# Altium integrated library Altera APEX 20K.IntLib: 93 symbols (part 14 of 14)
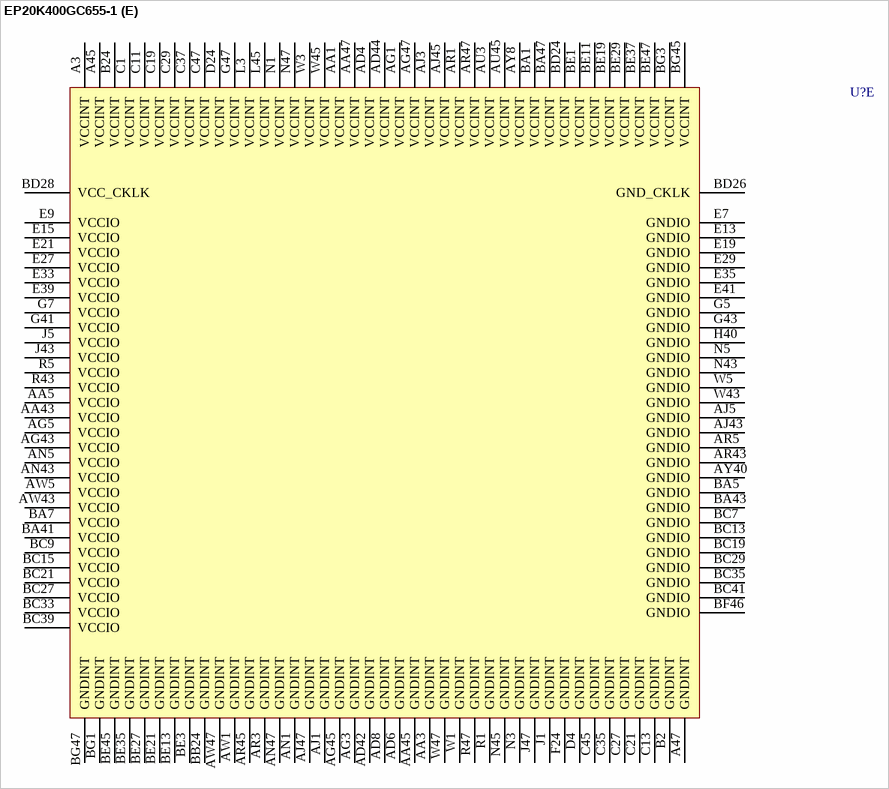
[diagram p212: symbol EP20K400GC655-1]

## EP20K400GC655-1
designator U?
APEX 20K400 PLD, 655-Pin PGA, Commercial Grade, Speed Grade 1; ComponentAvailability: Discontinued; Published: 17-Sep-2003; DatasheetVersion: Mar-2004; PackageVersion: ver14.1, Oct-2005; PackageReference: PGA655; Publisher: Altium Limited; PackageDescription: 655-Pin Ceramic Pin Grid Array (PGA655); Code_JEDEC: MO-128-AP; ComponentLink1Description: Manufacturer Link; ComponentLink1URL: http://www.altera.com/products/devices/apex/apx-index.html; ComponentLink2Description: Datasheet; ComponentLink2URL: http://www.altera.com/literature/ds/apex.pdf; ComponentLink3Description: Discontinuation Notice; ComponentLink3URL: http://www.altera.com/literature/pcn/pdn0107.pdf
footprint PGA655 (PGA, 655-Leads, Body 62.5x62.5mm, Pitch 2.54mm)
3D model EP20K400-PGA655 (655-Pin Ceramic Pin Grid Array (PGA655))
part A pins: A5 IO (io), A7 IO (io), A9 IO (io), A11 IO (io), A13 IO (io), A15 IO (io), A17 IO (io), A19 IO (io), A21 IO (io), A25 IO (io), A27 IO (io), A29 IO (io), A31 IO (io), A33 IO (io), A35 IO (io), A37 IO (io), A39 IO (io), A41 IO (io), A43 IO (io), B4 IO (io), B6 IO (io), B8 IO (io), B10 IO (io), B12 IO (io), B14 IO (io), B16 IO (io), B18 IO (io), B20 IO (io), B22 IO (io), B26 IO (io), B28 IO (io), B30 IO (io), B32 IO (io), B34 IO (io), B36 IO (io), B38 IO (io), B40 IO (io), B42 IO (io), B44 IO (io), B46 IO (io), C3 IO (io), C5 IO (io), C7 IO (io), C9 IO (io), C15 IO (io), C17 IO (io), C31 IO (io), C33 IO (io), C39 IO (io), C41 IO (io), C43 IO (io), D2 IO (io), D6 IO (io), D8 IO (io), D10 IO (io), D12 IO (io), D14 IO (io), D16 IO (io), D18 IO (io), D20 IO (io), D22 IO (io), D26 IO (io), D28 IO (io), D30 IO (io), D32 IO (io), D34 IO (io), D36 IO (io), D38 IO (io), D40 IO (io), D42 IO (io), D44 IO (io), D46 IO (io), E1 IO (io), E3 IO (io), E5 IO (io), E11 IO (io), E17 IO (io), E23 IO (io), E25 IO (io), E31 IO (io), E37 IO (io), E43 IO (io), E45 IO (io), E47 IO (io), F2 IO (io), F4 IO (io), F6 IO (io), F8 IO (io), F10 IO (io), F12 IO (io), F14 IO (io), F16 IO (io), F18 IO (io), F20 IO (io), F22 IO (io), F26 IO (io), F28 IO (io), F30 IO (io), F32 IO (io), F34 IO (io), F36 IO (io), F38 IO (io), F40 IO (io), F42 IO (io), F44 IO (io), F46 IO (io), G1 IO (io), G3 IO (io), G9 IO (io), G11 IO (io), G13 IO (io), G15 IO (io), G17 IO (io), G19 IO (io), G21 IO (io), G23 IO (io), G25 IO (io), G27 IO (io), G29 IO (io), G31 IO (io), G33 IO (io), G35 IO (io), G37 IO (io), G39 IO (io), G45 IO (io), H2 IO (io), H4 IO (io), H6 IO (io), H8 IO (io), H10 IO (io), H12 IO (io), H14 IO (io), H16 IO (io), H18 IO (io), H20 IO (io), H22 IO (io), H26 IO (io), H28 IO (io), H30 IO (io), H32 IO (io), H34 IO (io), H36 IO (io), H38 IO (io), H42 IO (io), H44 IO (io), H46 IO (io), J3 IO (io), J7 IO (io), J9 IO (io), J39 IO (io), J41 IO (io), J45 IO (io), K2 IO (io), K4 IO (io), K6 IO (io), K8 IO (io), K40 IO (io), K42 IO (io), K44 IO (io), K46 IO (io)
part B pins: AA7 IO (io), AA9 IO (io), AA39 IO (io), AA41 IO (io), AB2 IO (io), AB6 IO (io), AB8 IO (io), AB40 IO (io), AB42 IO (io), AB44 IO (io), AB46 IO (io), AC1 IO (io), AC3 IO (io), AC7 IO (io), AC39 IO (io), AC41 IO (io), AD46 IO (io), AE3 IO (io), AE5 IO (io), AE9 IO (io), AE39 IO (io), AE45 IO (io), AE47 IO (io), AF2 IO (io), AF4 IO (io), AF6 IO (io), AF8 IO (io), AF40 IO (io), AF42 IO (io), AF44 IO (io), AF46 IO (io), AG7 IO (io), AG9 IO (io), AG39 IO (io), AG41 IO (io), AH2 IO (io), AH40 IO (io), AH42 IO (io), AH44 IO (io), AH46 IO (io), AJ7 IO (io), AJ9 IO (io), AJ39 IO (io), AJ41 IO (io), AK2 IO (io), AK4 IO (io), AK6 IO (io), AK8 IO (io), AK40 IO (io), AK42 IO (io), AK44 IO (io), AK46 IO (io), AL1 IO (io), AL3 IO (io), AL5 IO (io), AL7 IO (io), AL9 IO (io), AL39 IO (io), AL41 IO (io), AL43 IO (io), AL45 IO (io), AL47 IO (io), AM2 IO (io), AM4 IO (io), AM6 IO (io), AM8 IO (io), AM40 IO (io), AM42 IO (io), AM44 IO (io), AM46 IO (io), AN3 IO (io), AN7 IO (io), AN9 IO (io), AN39 IO (io), AN41 IO (io), AN45 IO (io), AP2 IO (io), AP4 IO (io), AP8 IO (io), AP40 IO (io), AP42 IO (io), AP44 IO (io), AP46 IO (io), AR9 IO (io), AR39 IO (io), AR41 IO (io), AT2 IO (io), AT4 IO (io), L1 IO (io), L5 IO (io), L7 IO (io), L9 IO (io), L39 IO (io), L41 IO (io), L43 IO (io), L47 IO (io), M2 IO (io), M4 IO (io), M6 IO (io), M8 IO (io), M40 IO (io), M42 IO (io), M44 IO (io), M46 IO (io), N7 IO (io), N9 IO (io), N39 IO (io), N41 IO (io), P2 IO (io), P4 IO (io), P6 IO (io), P8 IO (io), P40 IO (io), P42 IO (io), P44 IO (io), P46 IO (io), R3 IO (io), R7 IO (io), R9 IO (io), R39 IO (io), R41 IO (io), R45 IO (io), T2 IO (io), T4 IO (io), T6 IO (io), T8 IO (io), T40 IO (io), T42 IO (io), T44 IO (io), T46 IO (io), U1 IO (io), U3 IO (io), U5 IO (io), U7 IO (io), U9 IO (io), U39 IO (io), U41 IO (io), U43 IO (io), U45 IO (io), U47 IO (io), V2 IO (io), V4 IO (io), V6 IO (io), V8 IO (io), V40 IO (io), V42 IO (io), V44 IO (io), V46 IO (io), W7 IO (io), W9 IO (io), W39 IO (io), W41 IO (io), Y2 IO (io), Y4 IO (io), Y6 IO (io), Y8 IO (io), Y40 IO (io), Y42 IO (io), Y44 IO (io), Y46 IO (io)
part C pins: AT6 IO (io), AT8 IO (io), AT40 IO (io), AT42 IO (io), AT44 IO (io), AT46 IO (io), AU1 IO (io), AU5 IO (io), AU7 IO (io), AU9 IO (io), AU39 IO (io), AU41 IO (io), AU43 IO (io), AU47 IO (io), AV2 IO (io), AV6 IO (io), AV8 IO (io), AV40 IO (io), AV42 IO (io), AV44 IO (io), AV46 IO (io), AW3 IO (io), AW7 IO (io), AW9 IO (io), AW39 IO (io), AW41 IO (io), AW45 IO (io), AY2 IO (io), AY4 IO (io), AY6 IO (io), AY10 IO (io), AY12 IO (io), AY14 IO (io), AY16 IO (io), AY18 IO (io), AY26 IO (io), AY28 IO (io), AY30 IO (io), AY32 IO (io), AY34 IO (io), AY36 IO (io), AY38 IO (io), AY42 IO (io), AY44 IO (io), AY46 IO (io), BA3 IO (io), BA9 IO (io), BA11 IO (io), BA13 IO (io), BA15 IO (io), BA17 IO (io), BA19 IO (io), BA21 IO (io), BA25 IO (io), BA27 IO (io), BA29 IO (io), BA31 IO (io), BA33 IO (io), BA35 IO (io), BA37 IO (io), BA39 IO (io), BA45 IO (io), BB2 IO (io), BB4 IO (io), BB6 IO (io), BB8 IO (io), BB10 IO (io), BB12 IO (io), BB14 IO (io), BB18 IO (io), BB22 IO (io), BB26 IO (io), BB28 IO (io), BB30 IO (io), BB32 IO (io), BB34 IO (io), BB36 IO (io), BB38 IO (io), BB40 IO (io), BB42 IO (io), BB44 IO (io), BB46 IO (io), BC1 IO (io), BC5 IO (io), BC11 IO (io), BC17 IO (io), BC23 IO (io), BC25 IO (io), BC31 IO (io), BC37 IO (io), BC43 IO (io), BC45 IO (io), BC47 IO (io), BD2 IO (io), BD4 IO (io), BD6 IO (io), BD8 IO (io), BD10 IO (io), BD12 IO (io), BD14 IO (io), BD16 IO (io), BD18 IO (io), BD22 IO (io), BD30 IO (io), BD32 IO (io), BD34 IO (io), BD36 IO (io), BD38 IO (io), BD40 IO (io), BD42 IO (io), BD44 IO (io), BD46 IO (io), BE5 IO (io), BE7 IO (io), BE9 IO (io), BE15 IO (io), BE17 IO (io), BE31 IO (io), BE33 IO (io), BE39 IO (io), BE41 IO (io), BE43 IO (io), BF2 IO (io), BF4 IO (io), BF6 IO (io), BF8 IO (io), BF10 IO (io), BF12 IO (io), BF16 IO (io), BF18 IO (io), BF20 IO (io), BF22 IO (io), BF24 IO (io), BF28 IO (io), BF30 IO (io), BF32 IO (io), BF34 IO (io), BF36 IO (io), BF38 IO (io), BF40 IO (io), BF42 IO (io), BF44 IO (io), BG5 IO (io), BG7 IO (io), BG9 IO (io), BG11 IO (io), BG15 IO (io), BG17 IO (io), BG19 IO (io), BG21 IO (io), BG25 IO (io), BG27 IO (io), BG31 IO (io), BG33 IO (io), BG35 IO (io), BG37 IO (io), BG39 IO (io), BG41 IO (io), BG43 IO (io)
part D pins: A23 MSEL0 (in), AB4 INPUT (in), AC5 INPUT (in), AC9 nCEO (out), AC43 INPUT (in), AC45 TCK (in), AC47 CONF_DONE (io), AD2 TRST (in), AD40 TMS (in), AE1 TDO (out), AE7 INIT_DONE (io), AE41 nSTATUS (io), AE43 INPUT (in), AH4 RDYnBSY (io), AH6 CLKUSR (io), AH8 DATA1 (io), AP6 DATA2 (io), AR7 DATA4 (io), AV4 DATA3 (io), AY20 nRS (io), AY22 DEV_CLRn (io), AY24 CLK2 (in), BA23 DCLK (in), BB16 DATA6 (io), BB20 nCS (io), BC3 DATA5 (io), BD20 CS (io), BE23 DATA0 (in), BE25 nCE (in), BF14 nWS (io), BF26 DEV_OE (io), BG13 DATA7 (io), BG23 TDI (in), BG29 LOCK (io), C23 MSEL1 (in), C25 nCONFIG (in), H24 CLK (in)
part E pins: A3 VCCINT (power), A45 VCCINT (power), A47 GNDINT (power), AA1 VCCINT (power), AA3 GNDINT (power), AA5 VCCIO (power), AA43 VCCIO (power), AA45 GNDINT (power), AA47 VCCINT (power), AD4 VCCINT (power), AD6 GNDINT (power), AD8 GNDINT (power), AD42 GNDINT (power), AD44 VCCINT (power), AG1 VCCINT (power), AG3 GNDINT (power), AG5 VCCIO (power), AG43 VCCIO (power), AG45 GNDINT (power), AG47 VCCINT (power), AJ1 GNDINT (power), AJ3 VCCINT (power), AJ5 GNDIO (power), AJ43 GNDIO (power), AJ45 VCCINT (power), AJ47 GNDINT (power), AN1 GNDINT (power), AN5 VCCIO (power), AN43 VCCIO (power), AN47 GNDINT (power), AR1 VCCINT (power), AR3 GNDINT (power), AR5 GNDIO (power), AR43 GNDIO (power), AR45 GNDINT (power), AR47 VCCINT (power), AU3 VCCINT (power), AU45 VCCINT (power), AW1 GNDINT (power), AW5 VCCIO (power), AW43 VCCIO (power), AW47 GNDINT (power), AY8 VCCINT (power), AY40 GNDIO (power), B2 GNDINT (power), B24 VCCINT (power), BA1 VCCINT (power), BA5 GNDIO (power), BA7 VCCIO (power), BA41 VCCIO (power), BA43 GNDIO (power), BA47 VCCINT (power), BB24 GNDINT (power), BC7 GNDIO (power), BC9 VCCIO (power), BC13 GNDIO (power), BC15 VCCIO (power), BC19 GNDIO (power), BC21 VCCIO (power), BC27 VCCIO (power), BC29 GNDIO (power), BC33 VCCIO (power), BC35 GNDIO (power), BC39 VCCIO (power), BC41 GNDIO (power), BD24 VCCINT (power), BD26 GND_CKLK (power), BD28 VCC_CKLK (power), BE1 VCCINT (power), BE3 GNDINT (power), BE11 VCCINT (power), BE13 GNDINT (power), BE19 VCCINT (power), BE21 GNDINT (power), BE27 GNDINT (power), BE29 VCCINT (power), BE35 GNDINT (power), BE37 VCCINT (power), BE45 GNDINT (power), BE47 VCCINT (power), BF46 GNDIO (power), BG1 GNDINT (power), BG3 VCCINT (power), BG45 VCCINT (power), BG47 GNDINT (power), C1 VCCINT (power), C11 VCCINT (power), C13 GNDINT (power), C19 VCCINT (power), C21 GNDINT (power), C27 GNDINT (power), C29 VCCINT (power), C35 GNDINT (power), C37 VCCINT (power), C45 GNDINT (power), C47 VCCINT (power), D4 GNDINT (power), D24 VCCINT (power), E7 GNDIO (power), E9 VCCIO (power), E13 GNDIO (power), E15 VCCIO (power), E19 GNDIO (power), E21 VCCIO (power), E27 VCCIO (power), E29 GNDIO (power), E33 VCCIO (power), E35 GNDIO (power), E39 VCCIO (power), E41 GNDIO (power), F24 GNDINT (power), G5 GNDIO (power), G7 VCCIO (power), G41 VCCIO (power), G43 GNDIO (power), G47 VCCINT (power), H40 GNDIO (power), J1 GNDINT (power), J5 VCCIO (power), J43 VCCIO (power), J47 GNDINT (power), L3 VCCINT (power), L45 VCCINT (power), N1 VCCINT (power), N3 GNDINT (power), N5 GNDIO (power), N43 GNDIO (power), N45 GNDINT (power), N47 VCCINT (power), R1 GNDINT (power), R5 VCCIO (power), R43 VCCIO (power), R47 GNDINT (power), W1 GNDINT (power), W3 VCCINT (power), W5 GNDIO (power), W43 GNDIO (power), W45 VCCINT (power), W47 GNDINT (power)

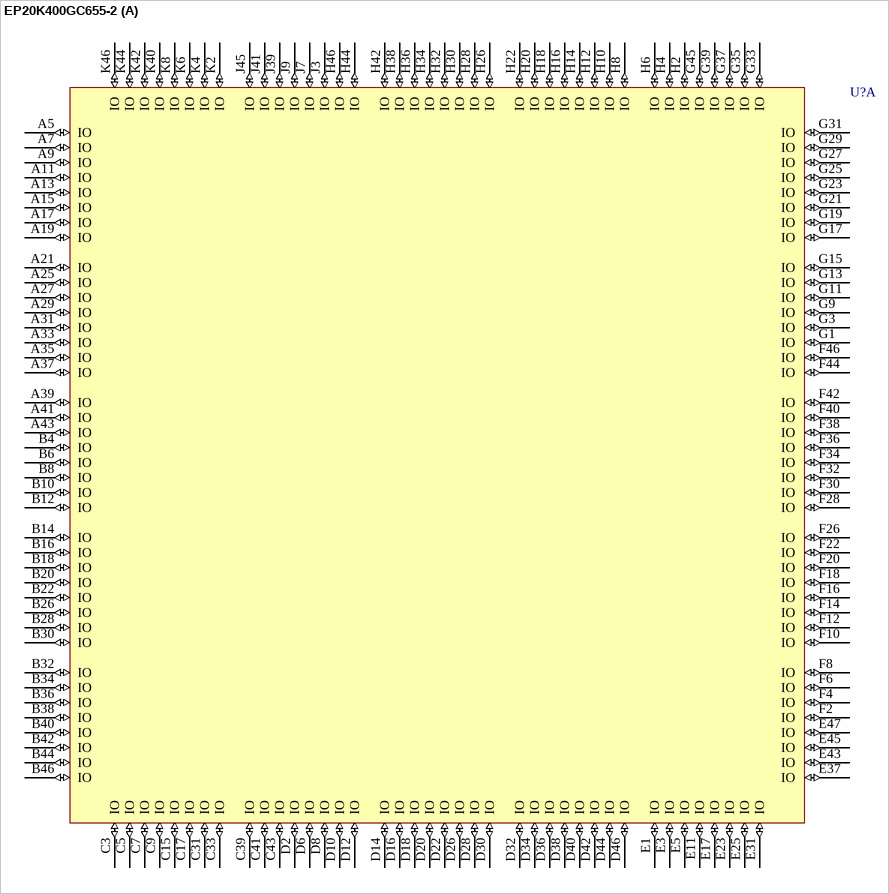
[diagram p192: symbol EP20K400GC655-2]

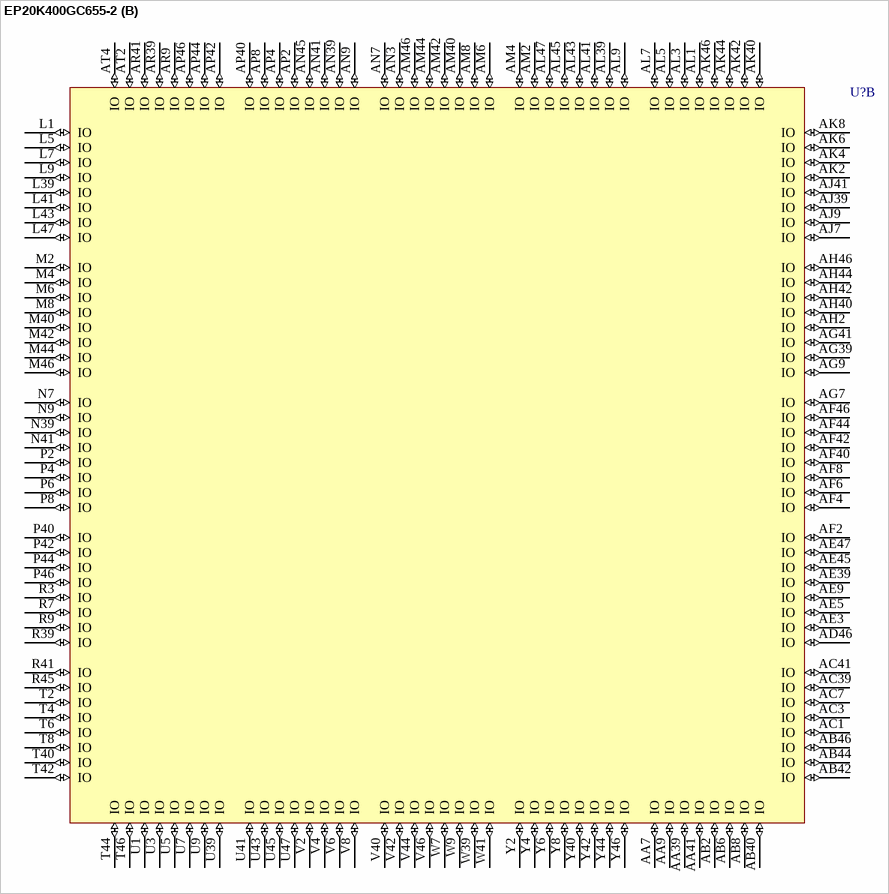
[diagram p193: symbol EP20K400GC655-2]

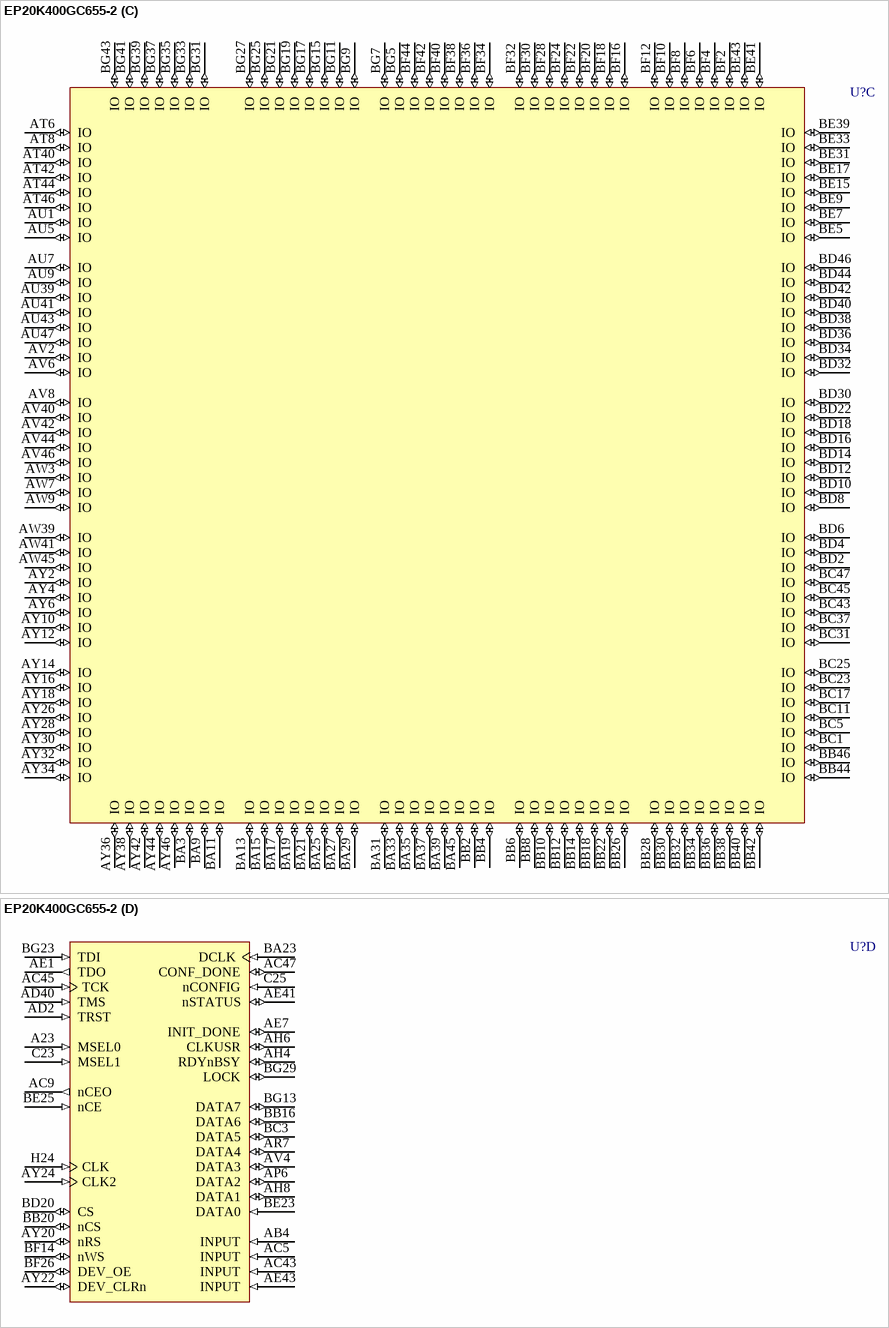
[diagram p194: symbol EP20K400GC655-2]

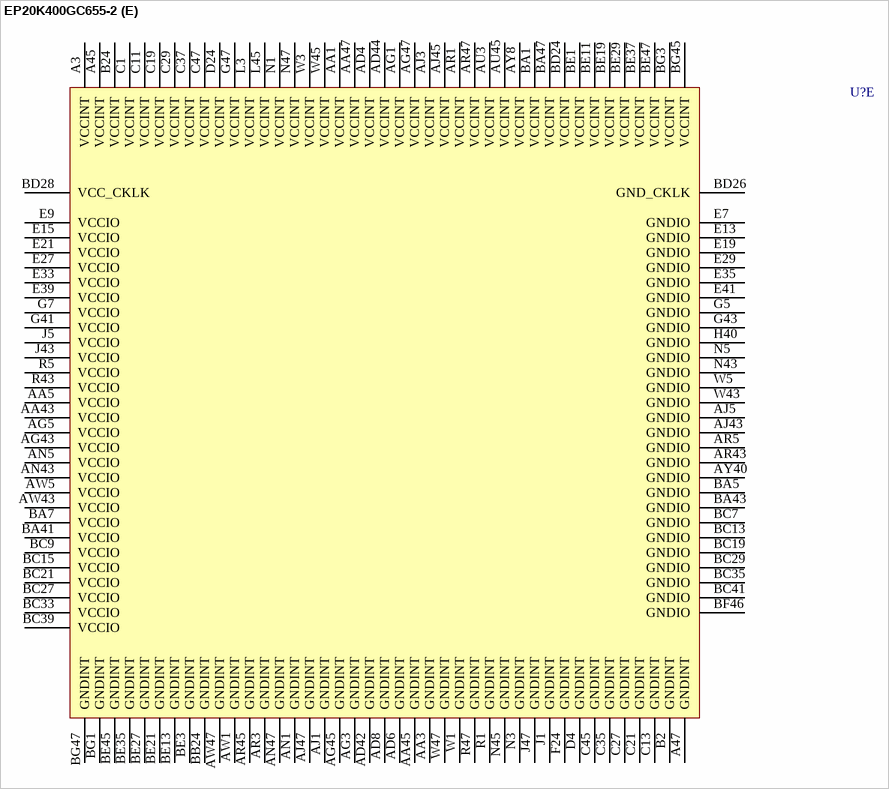
[diagram p195: symbol EP20K400GC655-2]

## EP20K400GC655-2
designator U?
APEX 20K400 PLD, 655-Pin PGA, Commercial Grade, Speed Grade 2; ComponentAvailability: Discontinued; Published: 17-Sep-2003; DatasheetVersion: Mar-2004; PackageVersion: ver14.1, Oct-2005; PackageReference: PGA655; Publisher: Altium Limited; PackageDescription: 655-Pin Ceramic Pin Grid Array (PGA655); Code_JEDEC: MO-128-AP; ComponentLink1Description: Manufacturer Link; ComponentLink1URL: http://www.altera.com/products/devices/apex/apx-index.html; ComponentLink2Description: Datasheet; ComponentLink2URL: http://www.altera.com/literature/ds/apex.pdf; ComponentLink3Description: Discontinuation Notice; ComponentLink3URL: http://www.altera.com/literature/pcn/pdn0107.pdf
footprint PGA655 (PGA, 655-Leads, Body 62.5x62.5mm, Pitch 2.54mm)
3D model EP20K400-PGA655 (655-Pin Ceramic Pin Grid Array (PGA655))
part A pins: A5 IO (io), A7 IO (io), A9 IO (io), A11 IO (io), A13 IO (io), A15 IO (io), A17 IO (io), A19 IO (io), A21 IO (io), A25 IO (io), A27 IO (io), A29 IO (io), A31 IO (io), A33 IO (io), A35 IO (io), A37 IO (io), A39 IO (io), A41 IO (io), A43 IO (io), B4 IO (io), B6 IO (io), B8 IO (io), B10 IO (io), B12 IO (io), B14 IO (io), B16 IO (io), B18 IO (io), B20 IO (io), B22 IO (io), B26 IO (io), B28 IO (io), B30 IO (io), B32 IO (io), B34 IO (io), B36 IO (io), B38 IO (io), B40 IO (io), B42 IO (io), B44 IO (io), B46 IO (io), C3 IO (io), C5 IO (io), C7 IO (io), C9 IO (io), C15 IO (io), C17 IO (io), C31 IO (io), C33 IO (io), C39 IO (io), C41 IO (io), C43 IO (io), D2 IO (io), D6 IO (io), D8 IO (io), D10 IO (io), D12 IO (io), D14 IO (io), D16 IO (io), D18 IO (io), D20 IO (io), D22 IO (io), D26 IO (io), D28 IO (io), D30 IO (io), D32 IO (io), D34 IO (io), D36 IO (io), D38 IO (io), D40 IO (io), D42 IO (io), D44 IO (io), D46 IO (io), E1 IO (io), E3 IO (io), E5 IO (io), E11 IO (io), E17 IO (io), E23 IO (io), E25 IO (io), E31 IO (io), E37 IO (io), E43 IO (io), E45 IO (io), E47 IO (io), F2 IO (io), F4 IO (io), F6 IO (io), F8 IO (io), F10 IO (io), F12 IO (io), F14 IO (io), F16 IO (io), F18 IO (io), F20 IO (io), F22 IO (io), F26 IO (io), F28 IO (io), F30 IO (io), F32 IO (io), F34 IO (io), F36 IO (io), F38 IO (io), F40 IO (io), F42 IO (io), F44 IO (io), F46 IO (io), G1 IO (io), G3 IO (io), G9 IO (io), G11 IO (io), G13 IO (io), G15 IO (io), G17 IO (io), G19 IO (io), G21 IO (io), G23 IO (io), G25 IO (io), G27 IO (io), G29 IO (io), G31 IO (io), G33 IO (io), G35 IO (io), G37 IO (io), G39 IO (io), G45 IO (io), H2 IO (io), H4 IO (io), H6 IO (io), H8 IO (io), H10 IO (io), H12 IO (io), H14 IO (io), H16 IO (io), H18 IO (io), H20 IO (io), H22 IO (io), H26 IO (io), H28 IO (io), H30 IO (io), H32 IO (io), H34 IO (io), H36 IO (io), H38 IO (io), H42 IO (io), H44 IO (io), H46 IO (io), J3 IO (io), J7 IO (io), J9 IO (io), J39 IO (io), J41 IO (io), J45 IO (io), K2 IO (io), K4 IO (io), K6 IO (io), K8 IO (io), K40 IO (io), K42 IO (io), K44 IO (io), K46 IO (io)
part B pins: AA7 IO (io), AA9 IO (io), AA39 IO (io), AA41 IO (io), AB2 IO (io), AB6 IO (io), AB8 IO (io), AB40 IO (io), AB42 IO (io), AB44 IO (io), AB46 IO (io), AC1 IO (io), AC3 IO (io), AC7 IO (io), AC39 IO (io), AC41 IO (io), AD46 IO (io), AE3 IO (io), AE5 IO (io), AE9 IO (io), AE39 IO (io), AE45 IO (io), AE47 IO (io), AF2 IO (io), AF4 IO (io), AF6 IO (io), AF8 IO (io), AF40 IO (io), AF42 IO (io), AF44 IO (io), AF46 IO (io), AG7 IO (io), AG9 IO (io), AG39 IO (io), AG41 IO (io), AH2 IO (io), AH40 IO (io), AH42 IO (io), AH44 IO (io), AH46 IO (io), AJ7 IO (io), AJ9 IO (io), AJ39 IO (io), AJ41 IO (io), AK2 IO (io), AK4 IO (io), AK6 IO (io), AK8 IO (io), AK40 IO (io), AK42 IO (io), AK44 IO (io), AK46 IO (io), AL1 IO (io), AL3 IO (io), AL5 IO (io), AL7 IO (io), AL9 IO (io), AL39 IO (io), AL41 IO (io), AL43 IO (io), AL45 IO (io), AL47 IO (io), AM2 IO (io), AM4 IO (io), AM6 IO (io), AM8 IO (io), AM40 IO (io), AM42 IO (io), AM44 IO (io), AM46 IO (io), AN3 IO (io), AN7 IO (io), AN9 IO (io), AN39 IO (io), AN41 IO (io), AN45 IO (io), AP2 IO (io), AP4 IO (io), AP8 IO (io), AP40 IO (io), AP42 IO (io), AP44 IO (io), AP46 IO (io), AR9 IO (io), AR39 IO (io), AR41 IO (io), AT2 IO (io), AT4 IO (io), L1 IO (io), L5 IO (io), L7 IO (io), L9 IO (io), L39 IO (io), L41 IO (io), L43 IO (io), L47 IO (io), M2 IO (io), M4 IO (io), M6 IO (io), M8 IO (io), M40 IO (io), M42 IO (io), M44 IO (io), M46 IO (io), N7 IO (io), N9 IO (io), N39 IO (io), N41 IO (io), P2 IO (io), P4 IO (io), P6 IO (io), P8 IO (io), P40 IO (io), P42 IO (io), P44 IO (io), P46 IO (io), R3 IO (io), R7 IO (io), R9 IO (io), R39 IO (io), R41 IO (io), R45 IO (io), T2 IO (io), T4 IO (io), T6 IO (io), T8 IO (io), T40 IO (io), T42 IO (io), T44 IO (io), T46 IO (io), U1 IO (io), U3 IO (io), U5 IO (io), U7 IO (io), U9 IO (io), U39 IO (io), U41 IO (io), U43 IO (io), U45 IO (io), U47 IO (io), V2 IO (io), V4 IO (io), V6 IO (io), V8 IO (io), V40 IO (io), V42 IO (io), V44 IO (io), V46 IO (io), W7 IO (io), W9 IO (io), W39 IO (io), W41 IO (io), Y2 IO (io), Y4 IO (io), Y6 IO (io), Y8 IO (io), Y40 IO (io), Y42 IO (io), Y44 IO (io), Y46 IO (io)
part C pins: AT6 IO (io), AT8 IO (io), AT40 IO (io), AT42 IO (io), AT44 IO (io), AT46 IO (io), AU1 IO (io), AU5 IO (io), AU7 IO (io), AU9 IO (io), AU39 IO (io), AU41 IO (io), AU43 IO (io), AU47 IO (io), AV2 IO (io), AV6 IO (io), AV8 IO (io), AV40 IO (io), AV42 IO (io), AV44 IO (io), AV46 IO (io), AW3 IO (io), AW7 IO (io), AW9 IO (io), AW39 IO (io), AW41 IO (io), AW45 IO (io), AY2 IO (io), AY4 IO (io), AY6 IO (io), AY10 IO (io), AY12 IO (io), AY14 IO (io), AY16 IO (io), AY18 IO (io), AY26 IO (io), AY28 IO (io), AY30 IO (io), AY32 IO (io), AY34 IO (io), AY36 IO (io), AY38 IO (io), AY42 IO (io), AY44 IO (io), AY46 IO (io), BA3 IO (io), BA9 IO (io), BA11 IO (io), BA13 IO (io), BA15 IO (io), BA17 IO (io), BA19 IO (io), BA21 IO (io), BA25 IO (io), BA27 IO (io), BA29 IO (io), BA31 IO (io), BA33 IO (io), BA35 IO (io), BA37 IO (io), BA39 IO (io), BA45 IO (io), BB2 IO (io), BB4 IO (io), BB6 IO (io), BB8 IO (io), BB10 IO (io), BB12 IO (io), BB14 IO (io), BB18 IO (io), BB22 IO (io), BB26 IO (io), BB28 IO (io), BB30 IO (io), BB32 IO (io), BB34 IO (io), BB36 IO (io), BB38 IO (io), BB40 IO (io), BB42 IO (io), BB44 IO (io), BB46 IO (io), BC1 IO (io), BC5 IO (io), BC11 IO (io), BC17 IO (io), BC23 IO (io), BC25 IO (io), BC31 IO (io), BC37 IO (io), BC43 IO (io), BC45 IO (io), BC47 IO (io), BD2 IO (io), BD4 IO (io), BD6 IO (io), BD8 IO (io), BD10 IO (io), BD12 IO (io), BD14 IO (io), BD16 IO (io), BD18 IO (io), BD22 IO (io), BD30 IO (io), BD32 IO (io), BD34 IO (io), BD36 IO (io), BD38 IO (io), BD40 IO (io), BD42 IO (io), BD44 IO (io), BD46 IO (io), BE5 IO (io), BE7 IO (io), BE9 IO (io), BE15 IO (io), BE17 IO (io), BE31 IO (io), BE33 IO (io), BE39 IO (io), BE41 IO (io), BE43 IO (io), BF2 IO (io), BF4 IO (io), BF6 IO (io), BF8 IO (io), BF10 IO (io), BF12 IO (io), BF16 IO (io), BF18 IO (io), BF20 IO (io), BF22 IO (io), BF24 IO (io), BF28 IO (io), BF30 IO (io), BF32 IO (io), BF34 IO (io), BF36 IO (io), BF38 IO (io), BF40 IO (io), BF42 IO (io), BF44 IO (io), BG5 IO (io), BG7 IO (io), BG9 IO (io), BG11 IO (io), BG15 IO (io), BG17 IO (io), BG19 IO (io), BG21 IO (io), BG25 IO (io), BG27 IO (io), BG31 IO (io), BG33 IO (io), BG35 IO (io), BG37 IO (io), BG39 IO (io), BG41 IO (io), BG43 IO (io)
part D pins: A23 MSEL0 (in), AB4 INPUT (in), AC5 INPUT (in), AC9 nCEO (out), AC43 INPUT (in), AC45 TCK (in), AC47 CONF_DONE (io), AD2 TRST (in), AD40 TMS (in), AE1 TDO (out), AE7 INIT_DONE (io), AE41 nSTATUS (io), AE43 INPUT (in), AH4 RDYnBSY (io), AH6 CLKUSR (io), AH8 DATA1 (io), AP6 DATA2 (io), AR7 DATA4 (io), AV4 DATA3 (io), AY20 nRS (io), AY22 DEV_CLRn (io), AY24 CLK2 (in), BA23 DCLK (in), BB16 DATA6 (io), BB20 nCS (io), BC3 DATA5 (io), BD20 CS (io), BE23 DATA0 (in), BE25 nCE (in), BF14 nWS (io), BF26 DEV_OE (io), BG13 DATA7 (io), BG23 TDI (in), BG29 LOCK (io), C23 MSEL1 (in), C25 nCONFIG (in), H24 CLK (in)
part E pins: A3 VCCINT (power), A45 VCCINT (power), A47 GNDINT (power), AA1 VCCINT (power), AA3 GNDINT (power), AA5 VCCIO (power), AA43 VCCIO (power), AA45 GNDINT (power), AA47 VCCINT (power), AD4 VCCINT (power), AD6 GNDINT (power), AD8 GNDINT (power), AD42 GNDINT (power), AD44 VCCINT (power), AG1 VCCINT (power), AG3 GNDINT (power), AG5 VCCIO (power), AG43 VCCIO (power), AG45 GNDINT (power), AG47 VCCINT (power), AJ1 GNDINT (power), AJ3 VCCINT (power), AJ5 GNDIO (power), AJ43 GNDIO (power), AJ45 VCCINT (power), AJ47 GNDINT (power), AN1 GNDINT (power), AN5 VCCIO (power), AN43 VCCIO (power), AN47 GNDINT (power), AR1 VCCINT (power), AR3 GNDINT (power), AR5 GNDIO (power), AR43 GNDIO (power), AR45 GNDINT (power), AR47 VCCINT (power), AU3 VCCINT (power), AU45 VCCINT (power), AW1 GNDINT (power), AW5 VCCIO (power), AW43 VCCIO (power), AW47 GNDINT (power), AY8 VCCINT (power), AY40 GNDIO (power), B2 GNDINT (power), B24 VCCINT (power), BA1 VCCINT (power), BA5 GNDIO (power), BA7 VCCIO (power), BA41 VCCIO (power), BA43 GNDIO (power), BA47 VCCINT (power), BB24 GNDINT (power), BC7 GNDIO (power), BC9 VCCIO (power), BC13 GNDIO (power), BC15 VCCIO (power), BC19 GNDIO (power), BC21 VCCIO (power), BC27 VCCIO (power), BC29 GNDIO (power), BC33 VCCIO (power), BC35 GNDIO (power), BC39 VCCIO (power), BC41 GNDIO (power), BD24 VCCINT (power), BD26 GND_CKLK (power), BD28 VCC_CKLK (power), BE1 VCCINT (power), BE3 GNDINT (power), BE11 VCCINT (power), BE13 GNDINT (power), BE19 VCCINT (power), BE21 GNDINT (power), BE27 GNDINT (power), BE29 VCCINT (power), BE35 GNDINT (power), BE37 VCCINT (power), BE45 GNDINT (power), BE47 VCCINT (power), BF46 GNDIO (power), BG1 GNDINT (power), BG3 VCCINT (power), BG45 VCCINT (power), BG47 GNDINT (power), C1 VCCINT (power), C11 VCCINT (power), C13 GNDINT (power), C19 VCCINT (power), C21 GNDINT (power), C27 GNDINT (power), C29 VCCINT (power), C35 GNDINT (power), C37 VCCINT (power), C45 GNDINT (power), C47 VCCINT (power), D4 GNDINT (power), D24 VCCINT (power), E7 GNDIO (power), E9 VCCIO (power), E13 GNDIO (power), E15 VCCIO (power), E19 GNDIO (power), E21 VCCIO (power), E27 VCCIO (power), E29 GNDIO (power), E33 VCCIO (power), E35 GNDIO (power), E39 VCCIO (power), E41 GNDIO (power), F24 GNDINT (power), G5 GNDIO (power), G7 VCCIO (power), G41 VCCIO (power), G43 GNDIO (power), G47 VCCINT (power), H40 GNDIO (power), J1 GNDINT (power), J5 VCCIO (power), J43 VCCIO (power), J47 GNDINT (power), L3 VCCINT (power), L45 VCCINT (power), N1 VCCINT (power), N3 GNDINT (power), N5 GNDIO (power), N43 GNDIO (power), N45 GNDINT (power), N47 VCCINT (power), R1 GNDINT (power), R5 VCCIO (power), R43 VCCIO (power), R47 GNDINT (power), W1 GNDINT (power), W3 VCCINT (power), W5 GNDIO (power), W43 GNDIO (power), W45 VCCINT (power), W47 GNDINT (power)

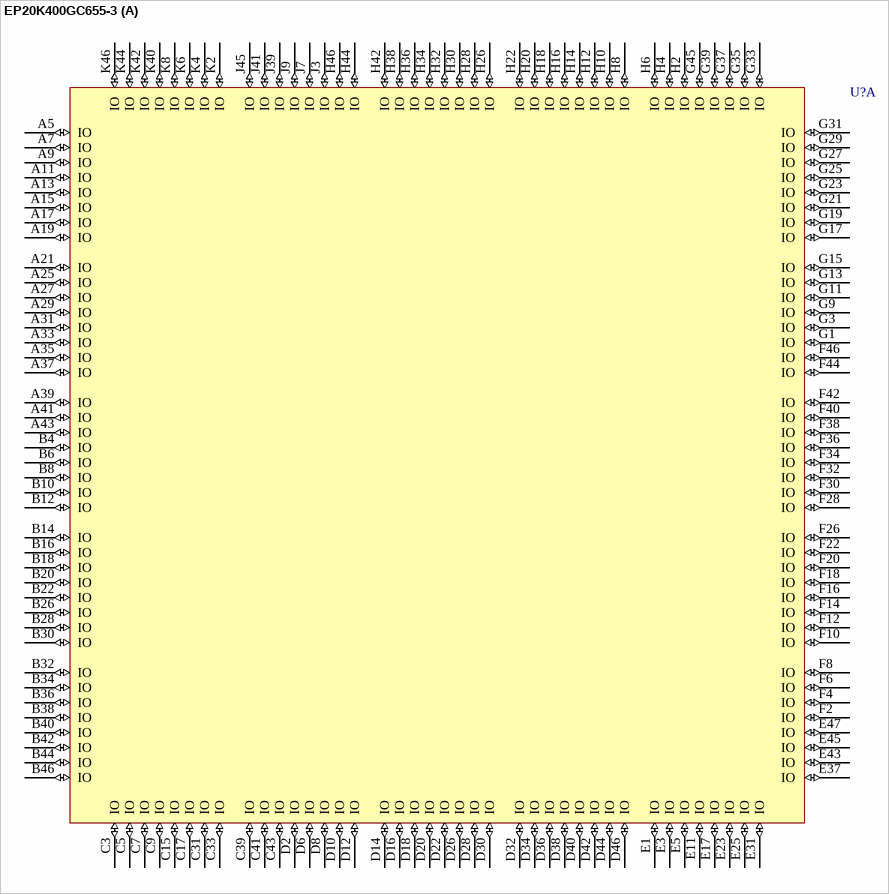
[diagram p196: symbol EP20K400GC655-3]

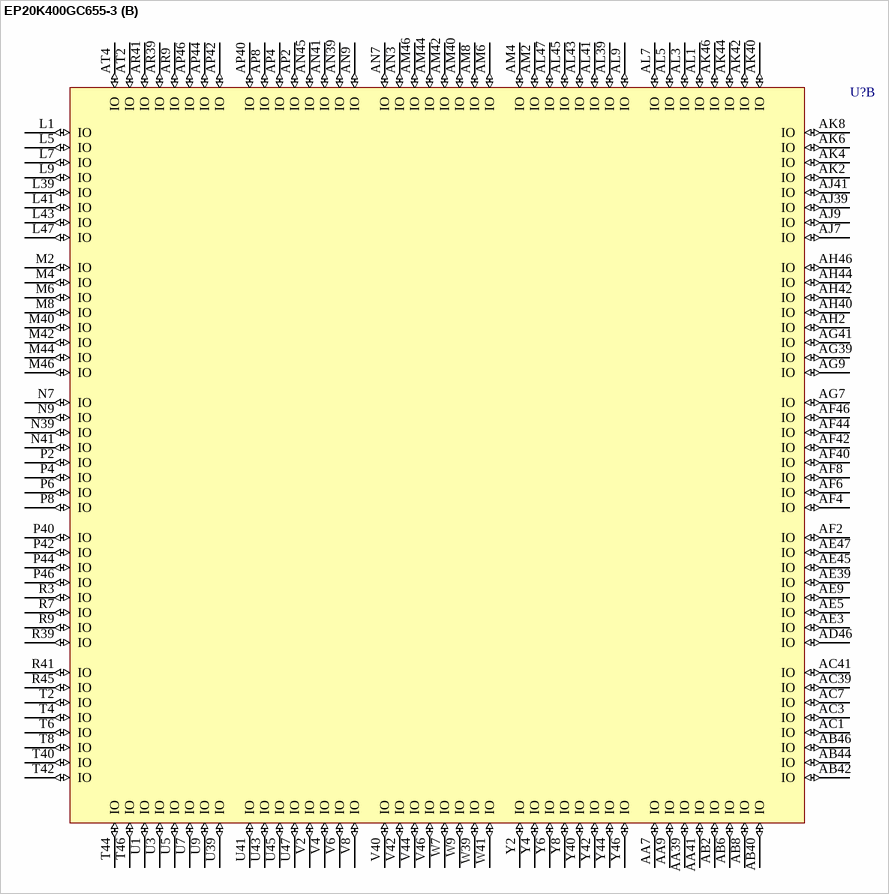
[diagram p197: symbol EP20K400GC655-3]

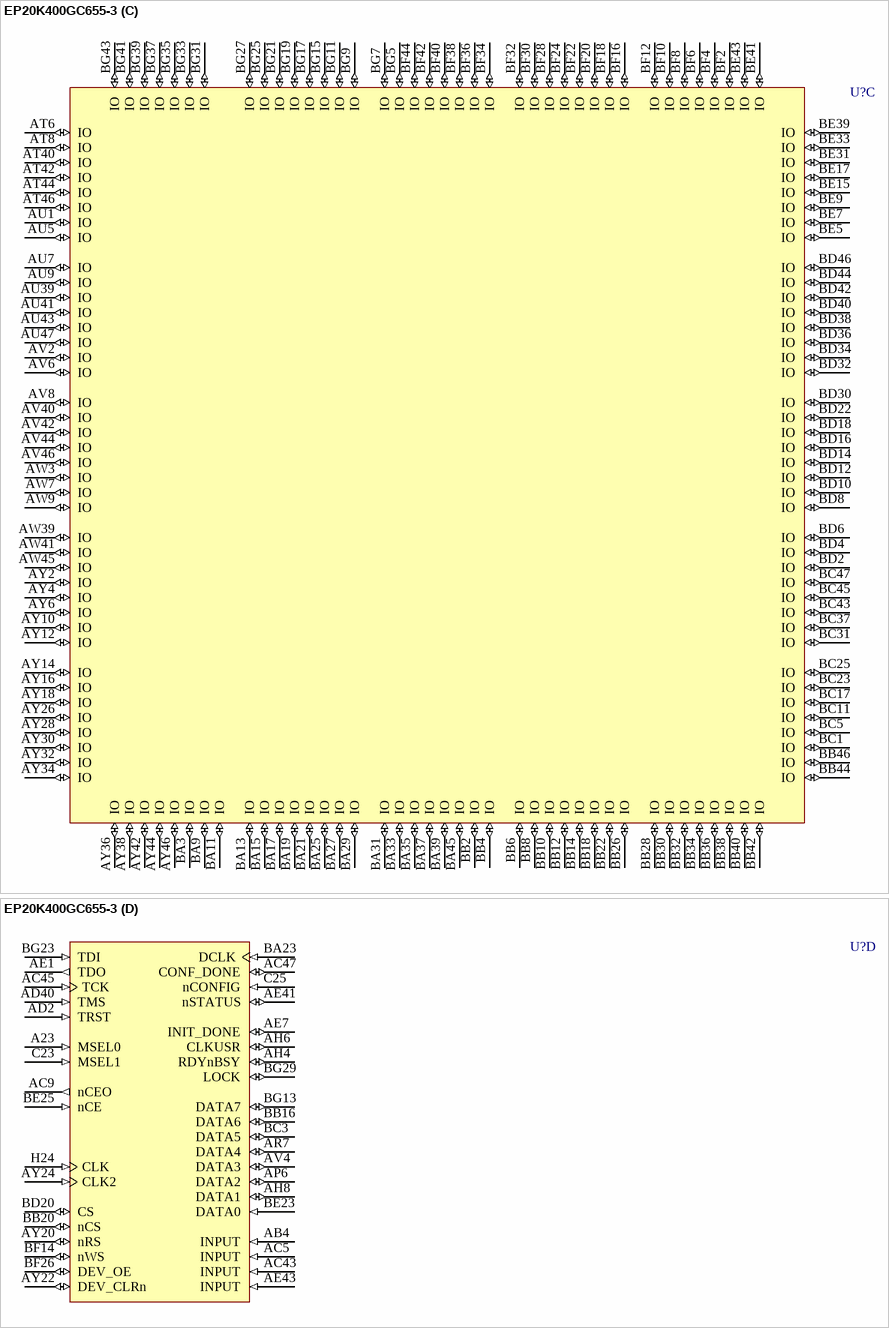
[diagram p198: symbol EP20K400GC655-3]

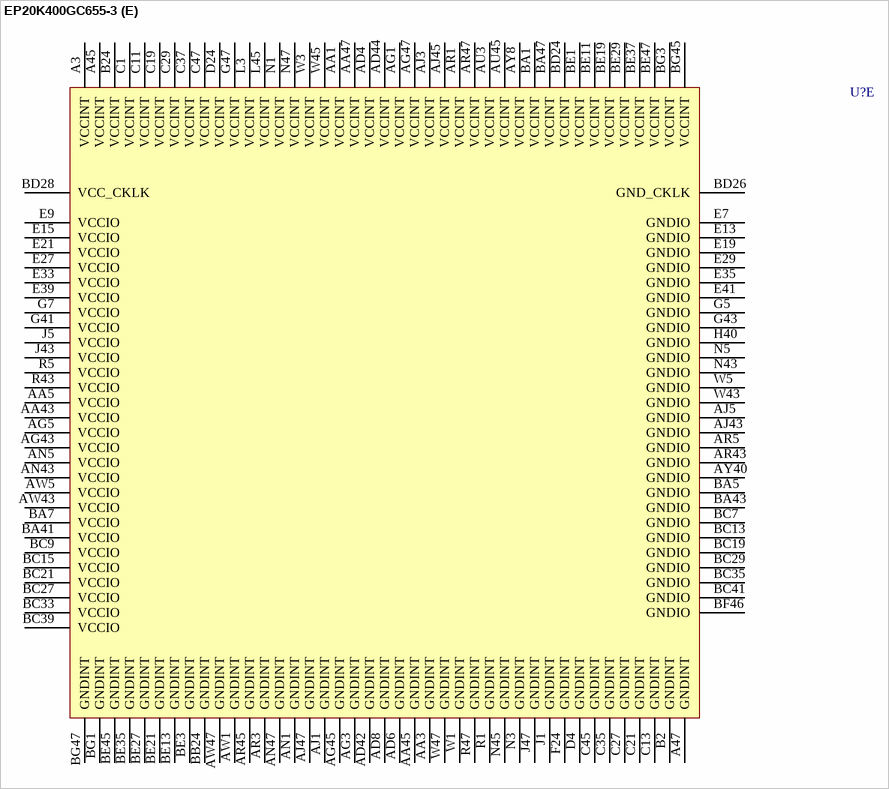
[diagram p199: symbol EP20K400GC655-3]

## EP20K400GC655-3
designator U?
APEX 20K400 PLD, 655-Pin PGA, Commercial Grade, Speed Grade 3; ComponentAvailability: Discontinued; Published: 17-Sep-2003; DatasheetVersion: Mar-2004; PackageVersion: ver14.1, Oct-2005; PackageReference: PGA655; Publisher: Altium Limited; PackageDescription: 655-Pin Ceramic Pin Grid Array (PGA655); Code_JEDEC: MO-128-AP; ComponentLink1Description: Manufacturer Link; ComponentLink1URL: http://www.altera.com/products/devices/apex/apx-index.html; ComponentLink2Description: Datasheet; ComponentLink2URL: http://www.altera.com/literature/ds/apex.pdf; ComponentLink3Description: Discontinuation Notice; ComponentLink3URL: http://www.altera.com/literature/pcn/pdn0107.pdf
footprint PGA655 (PGA, 655-Leads, Body 62.5x62.5mm, Pitch 2.54mm)
3D model EP20K400-PGA655 (655-Pin Ceramic Pin Grid Array (PGA655))
part A pins: A5 IO (io), A7 IO (io), A9 IO (io), A11 IO (io), A13 IO (io), A15 IO (io), A17 IO (io), A19 IO (io), A21 IO (io), A25 IO (io), A27 IO (io), A29 IO (io), A31 IO (io), A33 IO (io), A35 IO (io), A37 IO (io), A39 IO (io), A41 IO (io), A43 IO (io), B4 IO (io), B6 IO (io), B8 IO (io), B10 IO (io), B12 IO (io), B14 IO (io), B16 IO (io), B18 IO (io), B20 IO (io), B22 IO (io), B26 IO (io), B28 IO (io), B30 IO (io), B32 IO (io), B34 IO (io), B36 IO (io), B38 IO (io), B40 IO (io), B42 IO (io), B44 IO (io), B46 IO (io), C3 IO (io), C5 IO (io), C7 IO (io), C9 IO (io), C15 IO (io), C17 IO (io), C31 IO (io), C33 IO (io), C39 IO (io), C41 IO (io), C43 IO (io), D2 IO (io), D6 IO (io), D8 IO (io), D10 IO (io), D12 IO (io), D14 IO (io), D16 IO (io), D18 IO (io), D20 IO (io), D22 IO (io), D26 IO (io), D28 IO (io), D30 IO (io), D32 IO (io), D34 IO (io), D36 IO (io), D38 IO (io), D40 IO (io), D42 IO (io), D44 IO (io), D46 IO (io), E1 IO (io), E3 IO (io), E5 IO (io), E11 IO (io), E17 IO (io), E23 IO (io), E25 IO (io), E31 IO (io), E37 IO (io), E43 IO (io), E45 IO (io), E47 IO (io), F2 IO (io), F4 IO (io), F6 IO (io), F8 IO (io), F10 IO (io), F12 IO (io), F14 IO (io), F16 IO (io), F18 IO (io), F20 IO (io), F22 IO (io), F26 IO (io), F28 IO (io), F30 IO (io), F32 IO (io), F34 IO (io), F36 IO (io), F38 IO (io), F40 IO (io), F42 IO (io), F44 IO (io), F46 IO (io), G1 IO (io), G3 IO (io), G9 IO (io), G11 IO (io), G13 IO (io), G15 IO (io), G17 IO (io), G19 IO (io), G21 IO (io), G23 IO (io), G25 IO (io), G27 IO (io), G29 IO (io), G31 IO (io), G33 IO (io), G35 IO (io), G37 IO (io), G39 IO (io), G45 IO (io), H2 IO (io), H4 IO (io), H6 IO (io), H8 IO (io), H10 IO (io), H12 IO (io), H14 IO (io), H16 IO (io), H18 IO (io), H20 IO (io), H22 IO (io), H26 IO (io), H28 IO (io), H30 IO (io), H32 IO (io), H34 IO (io), H36 IO (io), H38 IO (io), H42 IO (io), H44 IO (io), H46 IO (io), J3 IO (io), J7 IO (io), J9 IO (io), J39 IO (io), J41 IO (io), J45 IO (io), K2 IO (io), K4 IO (io), K6 IO (io), K8 IO (io), K40 IO (io), K42 IO (io), K44 IO (io), K46 IO (io)
part B pins: AA7 IO (io), AA9 IO (io), AA39 IO (io), AA41 IO (io), AB2 IO (io), AB6 IO (io), AB8 IO (io), AB40 IO (io), AB42 IO (io), AB44 IO (io), AB46 IO (io), AC1 IO (io), AC3 IO (io), AC7 IO (io), AC39 IO (io), AC41 IO (io), AD46 IO (io), AE3 IO (io), AE5 IO (io), AE9 IO (io), AE39 IO (io), AE45 IO (io), AE47 IO (io), AF2 IO (io), AF4 IO (io), AF6 IO (io), AF8 IO (io), AF40 IO (io), AF42 IO (io), AF44 IO (io), AF46 IO (io), AG7 IO (io), AG9 IO (io), AG39 IO (io), AG41 IO (io), AH2 IO (io), AH40 IO (io), AH42 IO (io), AH44 IO (io), AH46 IO (io), AJ7 IO (io), AJ9 IO (io), AJ39 IO (io), AJ41 IO (io), AK2 IO (io), AK4 IO (io), AK6 IO (io), AK8 IO (io), AK40 IO (io), AK42 IO (io), AK44 IO (io), AK46 IO (io), AL1 IO (io), AL3 IO (io), AL5 IO (io), AL7 IO (io), AL9 IO (io), AL39 IO (io), AL41 IO (io), AL43 IO (io), AL45 IO (io), AL47 IO (io), AM2 IO (io), AM4 IO (io), AM6 IO (io), AM8 IO (io), AM40 IO (io), AM42 IO (io), AM44 IO (io), AM46 IO (io), AN3 IO (io), AN7 IO (io), AN9 IO (io), AN39 IO (io), AN41 IO (io), AN45 IO (io), AP2 IO (io), AP4 IO (io), AP8 IO (io), AP40 IO (io), AP42 IO (io), AP44 IO (io), AP46 IO (io), AR9 IO (io), AR39 IO (io), AR41 IO (io), AT2 IO (io), AT4 IO (io), L1 IO (io), L5 IO (io), L7 IO (io), L9 IO (io), L39 IO (io), L41 IO (io), L43 IO (io), L47 IO (io), M2 IO (io), M4 IO (io), M6 IO (io), M8 IO (io), M40 IO (io), M42 IO (io), M44 IO (io), M46 IO (io), N7 IO (io), N9 IO (io), N39 IO (io), N41 IO (io), P2 IO (io), P4 IO (io), P6 IO (io), P8 IO (io), P40 IO (io), P42 IO (io), P44 IO (io), P46 IO (io), R3 IO (io), R7 IO (io), R9 IO (io), R39 IO (io), R41 IO (io), R45 IO (io), T2 IO (io), T4 IO (io), T6 IO (io), T8 IO (io), T40 IO (io), T42 IO (io), T44 IO (io), T46 IO (io), U1 IO (io), U3 IO (io), U5 IO (io), U7 IO (io), U9 IO (io), U39 IO (io), U41 IO (io), U43 IO (io), U45 IO (io), U47 IO (io), V2 IO (io), V4 IO (io), V6 IO (io), V8 IO (io), V40 IO (io), V42 IO (io), V44 IO (io), V46 IO (io), W7 IO (io), W9 IO (io), W39 IO (io), W41 IO (io), Y2 IO (io), Y4 IO (io), Y6 IO (io), Y8 IO (io), Y40 IO (io), Y42 IO (io), Y44 IO (io), Y46 IO (io)
part C pins: AT6 IO (io), AT8 IO (io), AT40 IO (io), AT42 IO (io), AT44 IO (io), AT46 IO (io), AU1 IO (io), AU5 IO (io), AU7 IO (io), AU9 IO (io), AU39 IO (io), AU41 IO (io), AU43 IO (io), AU47 IO (io), AV2 IO (io), AV6 IO (io), AV8 IO (io), AV40 IO (io), AV42 IO (io), AV44 IO (io), AV46 IO (io), AW3 IO (io), AW7 IO (io), AW9 IO (io), AW39 IO (io), AW41 IO (io), AW45 IO (io), AY2 IO (io), AY4 IO (io), AY6 IO (io), AY10 IO (io), AY12 IO (io), AY14 IO (io), AY16 IO (io), AY18 IO (io), AY26 IO (io), AY28 IO (io), AY30 IO (io), AY32 IO (io), AY34 IO (io), AY36 IO (io), AY38 IO (io), AY42 IO (io), AY44 IO (io), AY46 IO (io), BA3 IO (io), BA9 IO (io), BA11 IO (io), BA13 IO (io), BA15 IO (io), BA17 IO (io), BA19 IO (io), BA21 IO (io), BA25 IO (io), BA27 IO (io), BA29 IO (io), BA31 IO (io), BA33 IO (io), BA35 IO (io), BA37 IO (io), BA39 IO (io), BA45 IO (io), BB2 IO (io), BB4 IO (io), BB6 IO (io), BB8 IO (io), BB10 IO (io), BB12 IO (io), BB14 IO (io), BB18 IO (io), BB22 IO (io), BB26 IO (io), BB28 IO (io), BB30 IO (io), BB32 IO (io), BB34 IO (io), BB36 IO (io), BB38 IO (io), BB40 IO (io), BB42 IO (io), BB44 IO (io), BB46 IO (io), BC1 IO (io), BC5 IO (io), BC11 IO (io), BC17 IO (io), BC23 IO (io), BC25 IO (io), BC31 IO (io), BC37 IO (io), BC43 IO (io), BC45 IO (io), BC47 IO (io), BD2 IO (io), BD4 IO (io), BD6 IO (io), BD8 IO (io), BD10 IO (io), BD12 IO (io), BD14 IO (io), BD16 IO (io), BD18 IO (io), BD22 IO (io), BD30 IO (io), BD32 IO (io), BD34 IO (io), BD36 IO (io), BD38 IO (io), BD40 IO (io), BD42 IO (io), BD44 IO (io), BD46 IO (io), BE5 IO (io), BE7 IO (io), BE9 IO (io), BE15 IO (io), BE17 IO (io), BE31 IO (io), BE33 IO (io), BE39 IO (io), BE41 IO (io), BE43 IO (io), BF2 IO (io), BF4 IO (io), BF6 IO (io), BF8 IO (io), BF10 IO (io), BF12 IO (io), BF16 IO (io), BF18 IO (io), BF20 IO (io), BF22 IO (io), BF24 IO (io), BF28 IO (io), BF30 IO (io), BF32 IO (io), BF34 IO (io), BF36 IO (io), BF38 IO (io), BF40 IO (io), BF42 IO (io), BF44 IO (io), BG5 IO (io), BG7 IO (io), BG9 IO (io), BG11 IO (io), BG15 IO (io), BG17 IO (io), BG19 IO (io), BG21 IO (io), BG25 IO (io), BG27 IO (io), BG31 IO (io), BG33 IO (io), BG35 IO (io), BG37 IO (io), BG39 IO (io), BG41 IO (io), BG43 IO (io)
part D pins: A23 MSEL0 (in), AB4 INPUT (in), AC5 INPUT (in), AC9 nCEO (out), AC43 INPUT (in), AC45 TCK (in), AC47 CONF_DONE (io), AD2 TRST (in), AD40 TMS (in), AE1 TDO (out), AE7 INIT_DONE (io), AE41 nSTATUS (io), AE43 INPUT (in), AH4 RDYnBSY (io), AH6 CLKUSR (io), AH8 DATA1 (io), AP6 DATA2 (io), AR7 DATA4 (io), AV4 DATA3 (io), AY20 nRS (io), AY22 DEV_CLRn (io), AY24 CLK2 (in), BA23 DCLK (in), BB16 DATA6 (io), BB20 nCS (io), BC3 DATA5 (io), BD20 CS (io), BE23 DATA0 (in), BE25 nCE (in), BF14 nWS (io), BF26 DEV_OE (io), BG13 DATA7 (io), BG23 TDI (in), BG29 LOCK (io), C23 MSEL1 (in), C25 nCONFIG (in), H24 CLK (in)
part E pins: A3 VCCINT (power), A45 VCCINT (power), A47 GNDINT (power), AA1 VCCINT (power), AA3 GNDINT (power), AA5 VCCIO (power), AA43 VCCIO (power), AA45 GNDINT (power), AA47 VCCINT (power), AD4 VCCINT (power), AD6 GNDINT (power), AD8 GNDINT (power), AD42 GNDINT (power), AD44 VCCINT (power), AG1 VCCINT (power), AG3 GNDINT (power), AG5 VCCIO (power), AG43 VCCIO (power), AG45 GNDINT (power), AG47 VCCINT (power), AJ1 GNDINT (power), AJ3 VCCINT (power), AJ5 GNDIO (power), AJ43 GNDIO (power), AJ45 VCCINT (power), AJ47 GNDINT (power), AN1 GNDINT (power), AN5 VCCIO (power), AN43 VCCIO (power), AN47 GNDINT (power), AR1 VCCINT (power), AR3 GNDINT (power), AR5 GNDIO (power), AR43 GNDIO (power), AR45 GNDINT (power), AR47 VCCINT (power), AU3 VCCINT (power), AU45 VCCINT (power), AW1 GNDINT (power), AW5 VCCIO (power), AW43 VCCIO (power), AW47 GNDINT (power), AY8 VCCINT (power), AY40 GNDIO (power), B2 GNDINT (power), B24 VCCINT (power), BA1 VCCINT (power), BA5 GNDIO (power), BA7 VCCIO (power), BA41 VCCIO (power), BA43 GNDIO (power), BA47 VCCINT (power), BB24 GNDINT (power), BC7 GNDIO (power), BC9 VCCIO (power), BC13 GNDIO (power), BC15 VCCIO (power), BC19 GNDIO (power), BC21 VCCIO (power), BC27 VCCIO (power), BC29 GNDIO (power), BC33 VCCIO (power), BC35 GNDIO (power), BC39 VCCIO (power), BC41 GNDIO (power), BD24 VCCINT (power), BD26 GND_CKLK (power), BD28 VCC_CKLK (power), BE1 VCCINT (power), BE3 GNDINT (power), BE11 VCCINT (power), BE13 GNDINT (power), BE19 VCCINT (power), BE21 GNDINT (power), BE27 GNDINT (power), BE29 VCCINT (power), BE35 GNDINT (power), BE37 VCCINT (power), BE45 GNDINT (power), BE47 VCCINT (power), BF46 GNDIO (power), BG1 GNDINT (power), BG3 VCCINT (power), BG45 VCCINT (power), BG47 GNDINT (power), C1 VCCINT (power), C11 VCCINT (power), C13 GNDINT (power), C19 VCCINT (power), C21 GNDINT (power), C27 GNDINT (power), C29 VCCINT (power), C35 GNDINT (power), C37 VCCINT (power), C45 GNDINT (power), C47 VCCINT (power), D4 GNDINT (power), D24 VCCINT (power), E7 GNDIO (power), E9 VCCIO (power), E13 GNDIO (power), E15 VCCIO (power), E19 GNDIO (power), E21 VCCIO (power), E27 VCCIO (power), E29 GNDIO (power), E33 VCCIO (power), E35 GNDIO (power), E39 VCCIO (power), E41 GNDIO (power), F24 GNDINT (power), G5 GNDIO (power), G7 VCCIO (power), G41 VCCIO (power), G43 GNDIO (power), G47 VCCINT (power), H40 GNDIO (power), J1 GNDINT (power), J5 VCCIO (power), J43 VCCIO (power), J47 GNDINT (power), L3 VCCINT (power), L45 VCCINT (power), N1 VCCINT (power), N3 GNDINT (power), N5 GNDIO (power), N43 GNDIO (power), N45 GNDINT (power), N47 VCCINT (power), R1 GNDINT (power), R5 VCCIO (power), R43 VCCIO (power), R47 GNDINT (power), W1 GNDINT (power), W3 VCCINT (power), W5 GNDIO (power), W43 GNDIO (power), W45 VCCINT (power), W47 GNDINT (power)